# EAGLE library part PINCONNECTOR-7X3 (library MarcEagleParts)
JUMPER
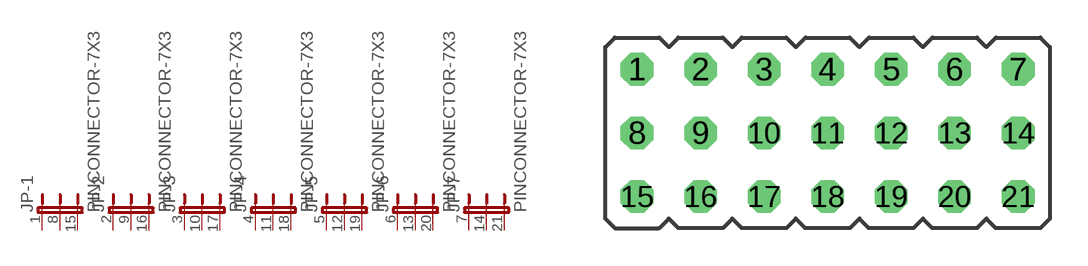
[diagram p2: symbol with the pads of MALE-PIN-3X7; footprint MALE-PIN-3X7]

Designator prefix JP; gates -1=PIN-3WAY -2=PIN-3WAY -3=PIN-3WAY -4=PIN-3WAY -5=PIN-3WAY -6=PIN-3WAY -7=PIN-3WAY

## PINCONNECTOR-7X3  [MALE-PIN-3X7]
1  -1:1  pas
2  -2:1  pas
3  -3:1  pas
4  -4:1  pas
5  -5:1  pas
6  -6:1  pas
7  -7:1  pas
8  -1:2  pas
9  -2:2  pas
10  -3:2  pas
11  -4:2  pas
12  -5:2  pas
13  -6:2  pas
14  -7:2  pas
15  -1:3  pas
16  -2:3  pas
17  -3:3  pas
18  -4:3  pas
19  -5:3  pas
20  -6:3  pas
21  -7:3  pas

## Footprint MALE-PIN-3X7 (pad centres in mm)
JUMPER 3x7 pin array. Used to connect the 7 endstops of a 3D pritner.
drill 0.8 octagon: 1 -7.62,1.27; 2 -5.08,1.27; 3 -2.54,1.27; 4 0,1.27; 5 2.54,1.27; 6 5.08,1.27; 7 7.62,1.27; 8 -7.62,-1.27; 9 -5.08,-1.27; 10 -2.54,-1.27; 11 0,-1.27; 12 2.54,-1.27; 13 5.08,-1.27; 14 7.62,-1.27; 15 -7.62,-3.81; 16 -5.08,-3.81; 17 -2.54,-3.81; 18 0,-3.81; 19 2.54,-3.81; 20 5.08,-3.81; 21 7.62,-3.81